# EAGLE library part 2201778-1_MICROSD (library ChristiansCustom)
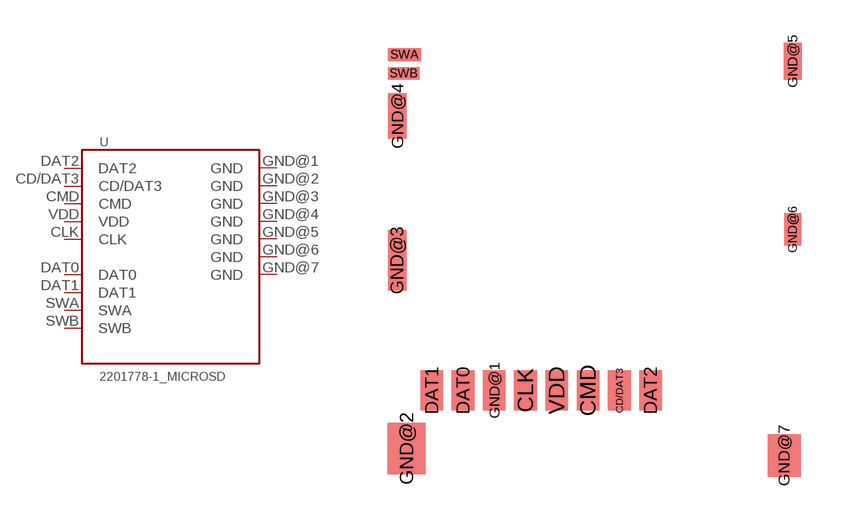
[diagram p3: symbol with the pads of 2201778-1; footprint 2201778-1]

Designator prefix -

## 2201778-1_MICROSD  [2201778-1]
CD/DAT3  CD/DAT3
CLK  CLK
CMD  CMD
DAT0  DAT0
DAT1  DAT1
DAT2  DAT2
GND@1  GND  pwr
GND@2  GND  pwr
GND@3  GND  pwr
GND@4  GND  pwr
GND@5  GND  pwr
GND@6  GND  pwr
GND@7  GND  pwr
SWA  SWA
SWB  SWB
VDD  VDD  pwr

## Footprint 2201778-1 (pad centres in mm)
smd 0.8 x 1.4: CD/DAT3 2.75,-0.7; CLK -0.55,-0.7; CMD 1.65,-0.7; DAT0 -2.75,-0.7; DAT1 -3.85,-0.7; DAT2 3.85,-0.7; GND@1 -1.65,-0.7; VDD 0.55,-0.7
smd 1.35 x 1.8: GND@2 -4.74,-2.75
smd 0.65 x 2.14: GND@3 -5.065,3.88
smd 0.65 x 1.6: GND@4 -5.065,8.96
smd 0.65 x 1.3: GND@5 8.86,10.9
smd 0.6 x 1.15: GND@6 8.86,4.975
smd 1.16 x 1.5: GND@7 8.56,-3
smd 1.15 x 0.45: SWA -4.815,11.125
smd 1.1 x 0.45: SWB -4.84,10.465